# Altium integrated library Maxim Sensors.IntLib: 1171 symbols (part 21 of 61)
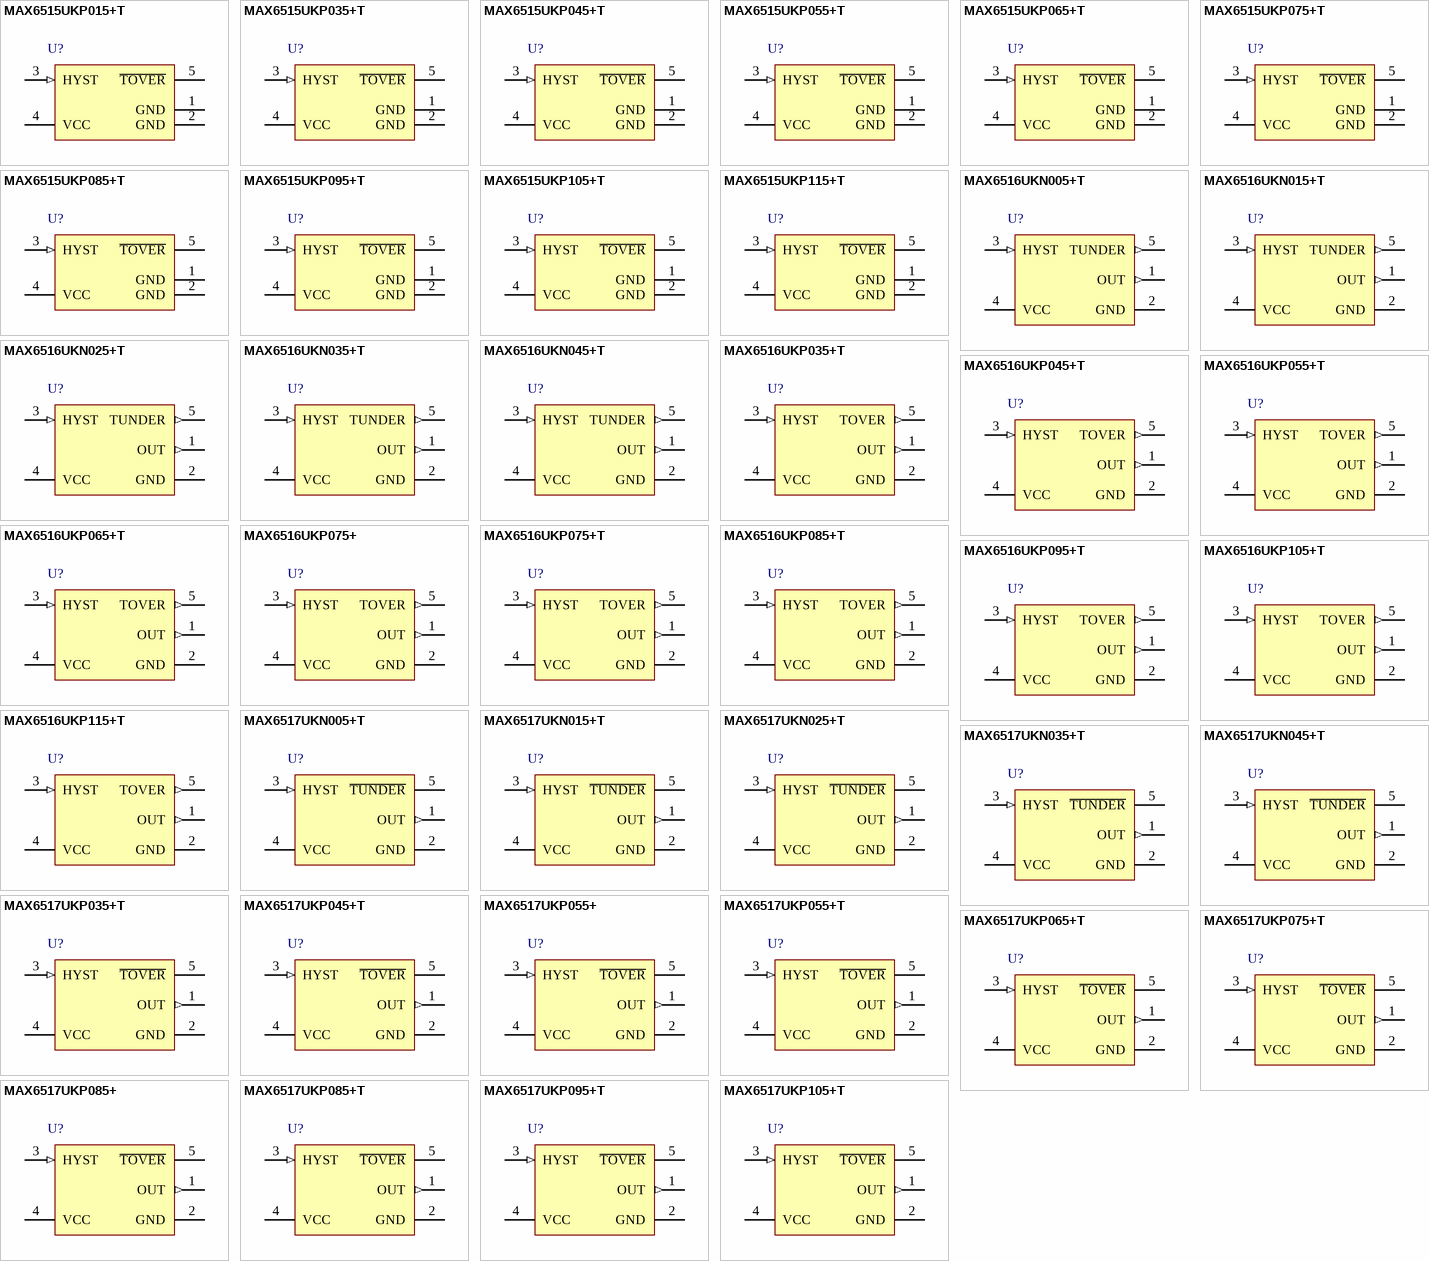
[diagram p53: symbols MAX6515UKP015+T to MAX6517UKP105+T]

## MAX6516UKP065+T
designator U?
Low-Cost, 2.7 to 5.5 V Temperature Switch, -55 to 125 degC, 5-Pin SOT23 (U5+2), Pb-Free, Tape and Reel; Generic Part Number: MAX6516; PartNumber: MAX6516UKP065+T; Functions: Temperature Switch/Temperature Comparator; Interface: Logic; DatasheetVersion: Rev. 1; PackageVersion: Rev. G, 04/2011; PackageReference: U5+2; PackageDescription: 5-Pin Small-Outline Transistor Package, Body 1.625 x 2.9 mm, Pitch 0.95 mm; Packing: Tape and Reel; Mounting Technology: Surface Mount; Code_JEDEC: MO178; ComponentLink1Description: Manufacturer URL; ComponentLink1URL: http://www.maximintegrated.com/; ComponentLink2Description: Datasheet; ComponentLink2URL: http://datasheets.maximintegrated.com/en/ds/MAX6516-MAX6519.pdf; ComponentLink3Description: Package Specification; ComponentLink3URL: http://pdfserv.maximintegrated.com/package_dwgs/21-0057.PDF
footprint MAXM-U5+2_N (SOT23, 5-Leads, Body 2.9x1.625mm, Pitch 0.95mm, IPC Medium Density)
footprint MAXM-U5+2_L (SOT23, 5-Leads, Body 2.9x1.625mm, Pitch 0.95mm, IPC High Density)
footprint MAXM-U5+2_M (SOT23, 5-Leads, Body 2.9x1.625mm, Pitch 0.95mm, IPC Low Density)
pins: 1 OUT (out) "Analog Output. Voltage represents the die’s temperature.", 2 GND (power) "Ground", 3 HYST (in) "Hysteresis Input. Connect to VCC for 2degreesC of hysteresis or to GND for 10degreesC hysteresis.", 4 VCC (power) "Input Supply. Bypass to ground with a 0.1uF capacitor.", 5 TOVER (out) "Push-Pull Active-High Output (Hot Threshold). TOVER goes high when the die temperature exceeds the factory-programmed hot temperature threshold."

## MAX6516UKP075+
designator U?
Low-Cost, 2.7 to 5.5 V Temperature Switch, -55 to 125 degC, 5-Pin SOT23 (U5+2), Pb-Free; Generic Part Number: MAX6516; PartNumber: MAX6516UKP075+; Functions: Temperature Switch/Temperature Comparator; Interface: Analog, Logic; DatasheetVersion: Rev. 1; PackageVersion: Rev. G, 04/2011; PackageReference: U5+2; PackageDescription: 5-Pin Small-Outline Transistor Package, Body 1.625 x 2.9 mm, Pitch 0.95 mm; Supplier 1: Mouser; Supplier Part Number 1: N/A; Mounting Technology: Surface Mount; Code_JEDEC: MO178; ComponentLink1Description: Manufacturer URL; ComponentLink1URL: http://www.maximintegrated.com/; ComponentLink2Description: Datasheet; ComponentLink2URL: http://datasheets.maximintegrated.com/en/ds/MAX6516; ComponentLink3Description: Package Specification; ComponentLink3URL: http://pdfserv.maximintegrated.com/package_dwgs/21-0057.PDF
footprint MAXM-U5+2_N (SOT23, 5-Leads, Body 2.9x1.625mm, Pitch 0.95mm, IPC Medium Density)
footprint MAXM-U5+2_L (SOT23, 5-Leads, Body 2.9x1.625mm, Pitch 0.95mm, IPC High Density)
footprint MAXM-U5+2_M (SOT23, 5-Leads, Body 2.9x1.625mm, Pitch 0.95mm, IPC Low Density)
pins: 1 OUT (out) "Analog Output. Voltage represents the die’s temperature.", 2 GND (power) "Ground", 3 HYST (in) "Hysteresis Input. Connect to VCC for 2degreesC of hysteresis or to GND for 10degreesC hysteresis.", 4 VCC (power) "Input Supply. Bypass to ground with a 0.1uF capacitor.", 5 TOVER (out) "Push-Pull Active-High Output (Hot Threshold). TOVER goes high when the die temperature exceeds the factory-programmed hot temperature threshold."

## MAX6516UKP075+T
designator U?
Low-Cost, 2.7 to 5.5 V Temperature Switch, -55 to 125 degC, 5-Pin SOT23 (U5+2), Pb-Free, Tape and Reel; Generic Part Number: MAX6516; PartNumber: MAX6516UKP075+T; Functions: Temperature Switch/Temperature Comparator; Interface: Analog, Logic; DatasheetVersion: Rev. 1; PackageVersion: Rev. G, 04/2011; PackageReference: U5+2; PackageDescription: 5-Pin Small-Outline Transistor Package, Body 1.625 x 2.9 mm, Pitch 0.95 mm; Supplier 1: Digi-Key; Supplier Part Number 1: MAX6516UKP075+T-ND; Supplier 2: Mouser; Supplier Part Number 2: 700-MAX6516UKP075T; Packing: Tape and Reel; Mounting Technology: Surface Mount; Code_JEDEC: MO178; ComponentLink1Description: Manufacturer URL; ComponentLink1URL: http://www.maximintegrated.com/; ComponentLink2Description: Datasheet; ComponentLink2URL: http://datasheets.maximintegrated.com/en/ds/MAX6516; ComponentLink3Description: Package Specification; ComponentLink3URL: http://pdfserv.maximintegrated.com/package_dwgs/21-0057.PDF
footprint MAXM-U5+2_N (SOT23, 5-Leads, Body 2.9x1.625mm, Pitch 0.95mm, IPC Medium Density)
footprint MAXM-U5+2_L (SOT23, 5-Leads, Body 2.9x1.625mm, Pitch 0.95mm, IPC High Density)
footprint MAXM-U5+2_M (SOT23, 5-Leads, Body 2.9x1.625mm, Pitch 0.95mm, IPC Low Density)
pins: 1 OUT (out) "Analog Output. Voltage represents the die’s temperature.", 2 GND (power) "Ground", 3 HYST (in) "Hysteresis Input. Connect to VCC for 2degreesC of hysteresis or to GND for 10degreesC hysteresis.", 4 VCC (power) "Input Supply. Bypass to ground with a 0.1uF capacitor.", 5 TOVER (out) "Push-Pull Active-High Output (Hot Threshold). TOVER goes high when the die temperature exceeds the factory-programmed hot temperature threshold."

## MAX6516UKP085+T
designator U?
Low-Cost, 2.7 to 5.5 V Temperature Switch, -55 to 125 degC, 5-Pin SOT23 (U5+2), Pb-Free, Tape and Reel; Generic Part Number: MAX6516; PartNumber: MAX6516UKP085+T; Functions: Temperature Switch/Temperature Comparator; Interface: Analog, Logic; DatasheetVersion: Rev. 1; PackageVersion: Rev. G, 04/2011; PackageReference: U5+2; PackageDescription: 5-Pin Small-Outline Transistor Package, Body 1.625 x 2.9 mm, Pitch 0.95 mm; Packing: Tape and Reel; Mounting Technology: Surface Mount; Code_JEDEC: MO178; ComponentLink1Description: Manufacturer URL; ComponentLink1URL: http://www.maximintegrated.com/; ComponentLink2Description: Datasheet; ComponentLink2URL: http://datasheets.maximintegrated.com/en/ds/MAX6516-MAX6519.pdf; ComponentLink3Description: Package Specification; ComponentLink3URL: http://pdfserv.maximintegrated.com/package_dwgs/21-0057.PDF
footprint MAXM-U5+2_N (SOT23, 5-Leads, Body 2.9x1.625mm, Pitch 0.95mm, IPC Medium Density)
footprint MAXM-U5+2_L (SOT23, 5-Leads, Body 2.9x1.625mm, Pitch 0.95mm, IPC High Density)
footprint MAXM-U5+2_M (SOT23, 5-Leads, Body 2.9x1.625mm, Pitch 0.95mm, IPC Low Density)
pins: 1 OUT (out) "Analog Output. Voltage represents the die’s temperature.", 2 GND (power) "Ground", 3 HYST (in) "Hysteresis Input. Connect to VCC for 2degreesC of hysteresis or to GND for 10degreesC hysteresis.", 4 VCC (power) "Input Supply. Bypass to ground with a 0.1uF capacitor.", 5 TOVER (out) "Push-Pull Active-High Output (Hot Threshold). TOVER goes high when the die temperature exceeds the factory-programmed hot temperature threshold."

## MAX6516UKP095+T
designator U?
Low-Cost, 2.7 to 5.5 V Temperature Switch, -55 to 125 degC, 5-Pin SOT23 (U5+2), Pb-Free, Tape and Reel; Generic Part Number: MAX6516; PartNumber: MAX6516UKP095+T; Functions: Temperature Switch/Temperature Comparator; Interface: Analog, Logic; DatasheetVersion: Rev. 1; PackageVersion: Rev. G, 04/2011; PackageReference: U5+2; PackageDescription: 5-Pin Small-Outline Transistor Package, Body 1.625 x 2.9 mm, Pitch 0.95 mm; Packing: Tape and Reel; Mounting Technology: Surface Mount; Code_JEDEC: MO178; ComponentLink1Description: Manufacturer URL; ComponentLink1URL: http://www.maximintegrated.com/; ComponentLink2Description: Datasheet; ComponentLink2URL: http://datasheets.maximintegrated.com/en/ds/MAX6516-MAX6519.pdf; ComponentLink3Description: Package Specification; ComponentLink3URL: http://pdfserv.maximintegrated.com/package_dwgs/21-0057.PDF
footprint MAXM-U5+2_N (SOT23, 5-Leads, Body 2.9x1.625mm, Pitch 0.95mm, IPC Medium Density)
footprint MAXM-U5+2_L (SOT23, 5-Leads, Body 2.9x1.625mm, Pitch 0.95mm, IPC High Density)
footprint MAXM-U5+2_M (SOT23, 5-Leads, Body 2.9x1.625mm, Pitch 0.95mm, IPC Low Density)
pins: 1 OUT (out) "Analog Output. Voltage represents the die’s temperature.", 2 GND (power) "Ground", 3 HYST (in) "Hysteresis Input. Connect to VCC for 2degreesC of hysteresis or to GND for 10degreesC hysteresis.", 4 VCC (power) "Input Supply. Bypass to ground with a 0.1uF capacitor.", 5 TOVER (out) "Push-Pull Active-High Output (Hot Threshold). TOVER goes high when the die temperature exceeds the factory-programmed hot temperature threshold."

## MAX6516UKP105+T
designator U?
Low-Cost, 2.7 to 5.5 V Temperature Switch, -55 to 125 degC, 5-Pin SOT23 (U5+2), Pb-Free, Tape and Reel; Generic Part Number: MAX6516; PartNumber: MAX6516UKP105+T; Functions: Temperature Switch/Temperature Comparator; Interface: Analog, Logic; DatasheetVersion: Rev. 1; PackageVersion: Rev. G, 04/2011; PackageReference: U5+2; PackageDescription: 5-Pin Small-Outline Transistor Package, Body 1.625 x 2.9 mm, Pitch 0.95 mm; Packing: Tape and Reel; Mounting Technology: Surface Mount; Code_JEDEC: MO178; ComponentLink1Description: Manufacturer URL; ComponentLink1URL: http://www.maximintegrated.com/; ComponentLink2Description: Datasheet; ComponentLink2URL: http://datasheets.maximintegrated.com/en/ds/MAX6516-MAX6519.pdf; ComponentLink3Description: Package Specification; ComponentLink3URL: http://pdfserv.maximintegrated.com/package_dwgs/21-0057.PDF
footprint MAXM-U5+2_N (SOT23, 5-Leads, Body 2.9x1.625mm, Pitch 0.95mm, IPC Medium Density)
footprint MAXM-U5+2_L (SOT23, 5-Leads, Body 2.9x1.625mm, Pitch 0.95mm, IPC High Density)
footprint MAXM-U5+2_M (SOT23, 5-Leads, Body 2.9x1.625mm, Pitch 0.95mm, IPC Low Density)
pins: 1 OUT (out) "Analog Output. Voltage represents the die’s temperature.", 2 GND (power) "Ground", 3 HYST (in) "Hysteresis Input. Connect to VCC for 2degreesC of hysteresis or to GND for 10degreesC hysteresis.", 4 VCC (power) "Input Supply. Bypass to ground with a 0.1uF capacitor.", 5 TOVER (out) "Push-Pull Active-High Output (Hot Threshold). TOVER goes high when the die temperature exceeds the factory-programmed hot temperature threshold."

## MAX6516UKP115+T
designator U?
Low-Cost, 2.7 to 5.5 V Temperature Switch, -55 to 125 degC, 5-Pin SOT23 (U5+2), Pb-Free, Tape and Reel; Generic Part Number: MAX6516; PartNumber: MAX6516UKP115+T; Functions: Temperature Switch/Temperature Comparator; Interface: Logic; DatasheetVersion: Rev. 1; PackageVersion: Rev. G, 04/2011; PackageReference: U5+2; PackageDescription: 5-Pin Small-Outline Transistor Package, Body 1.625 x 2.9 mm, Pitch 0.95 mm; Packing: Tape and Reel; Mounting Technology: Surface Mount; Code_JEDEC: MO178; ComponentLink1Description: Manufacturer URL; ComponentLink1URL: http://www.maximintegrated.com/; ComponentLink2Description: Datasheet; ComponentLink2URL: http://datasheets.maximintegrated.com/en/ds/MAX6516-MAX6519.pdf; ComponentLink3Description: Package Specification; ComponentLink3URL: http://pdfserv.maximintegrated.com/package_dwgs/21-0057.PDF
footprint MAXM-U5+2_N (SOT23, 5-Leads, Body 2.9x1.625mm, Pitch 0.95mm, IPC Medium Density)
footprint MAXM-U5+2_L (SOT23, 5-Leads, Body 2.9x1.625mm, Pitch 0.95mm, IPC High Density)
footprint MAXM-U5+2_M (SOT23, 5-Leads, Body 2.9x1.625mm, Pitch 0.95mm, IPC Low Density)
pins: 1 OUT (out) "Analog Output. Voltage represents the die’s temperature.", 2 GND (power) "Ground", 3 HYST (in) "Hysteresis Input. Connect to VCC for 2degreesC of hysteresis or to GND for 10degreesC hysteresis.", 4 VCC (power) "Input Supply. Bypass to ground with a 0.1uF capacitor.", 5 TOVER (out) "Push-Pull Active-High Output (Hot Threshold). TOVER goes high when the die temperature exceeds the factory-programmed hot temperature threshold."

## MAX6517UKN005+T
designator U?
Low-Cost, 2.7 to 5.5 V Temperature Switch, -55 to 125 degC, 5-Pin SOT23 (U5+2), Pb-Free, Tape and Reel; Generic Part Number: MAX6517; PartNumber: MAX6517UKN005+T; Functions: Temperature Switch/Temperature Comparator; Interface: Analog Logic; DatasheetVersion: Rev. 1; PackageVersion: Rev. G, 04/2011; PackageReference: U5+2; PackageDescription: 5-Pin Small-Outline Transistor Package, Body 1.625 x 2.9 mm, Pitch 0.95 mm; Supplier 1: Mouser; Supplier Part Number 1: N/A; Packing: Tape and Reel; Mounting Technology: Surface Mount; Code_JEDEC: MO178; ComponentLink1Description: Manufacturer URL; ComponentLink1URL: http://www.maximintegrated.com/; ComponentLink2Description: Datasheet; ComponentLink2URL: http://datasheets.maximintegrated.com/en/ds/MAX6516-MAX6519.pdf; ComponentLink3Description: Package Specification; ComponentLink3URL: http://pdfserv.maximintegrated.com/package_dwgs/21-0057.PDF
footprint MAXM-U5+2_N (SOT23, 5-Leads, Body 2.9x1.625mm, Pitch 0.95mm, IPC Medium Density)
footprint MAXM-U5+2_L (SOT23, 5-Leads, Body 2.9x1.625mm, Pitch 0.95mm, IPC High Density)
footprint MAXM-U5+2_M (SOT23, 5-Leads, Body 2.9x1.625mm, Pitch 0.95mm, IPC Low Density)
pins: 1 OUT (out) "Analog Output. Voltage represents the die’s temperature.", 2 GND (power) "Ground", 3 HYST (in) "Hysteresis Input. Connect to VCC for 2degreesC of hysteresis or to GND for 10degreesC hysteresis", 4 VCC (power) "Input Supply. Bypass to ground with a 0.1uF capacitor", 5 ~{TUNDER} (oc) "Open-Drain, Active-Low Output (Cold Threshold). T\U\N\D\E\R\ goes low when the die temperature goes below the factory-programmed cold temperature threshold. Connect to a 100k ohm pullup resistor. May be pulled up to a (See Datasheet)"

## MAX6517UKN015+T
designator U?
Low-Cost, 2.7 to 5.5 V Temperature Switch, -55 to 125 degC, 5-Pin SOT23 (U5+2), Pb-Free, Tape and Reel; Generic Part Number: MAX6517; PartNumber: MAX6517UKN015+T; Functions: Temperature Switch/Temperature Comparator; Interface: Analog Logic; DatasheetVersion: Rev. 1; PackageVersion: Rev. G, 04/2011; PackageReference: U5+2; PackageDescription: 5-Pin Small-Outline Transistor Package, Body 1.625 x 2.9 mm, Pitch 0.95 mm; Supplier 1: Mouser; Supplier Part Number 1: N/A; Packing: Tape and Reel; Mounting Technology: Surface Mount; Code_JEDEC: MO178; ComponentLink1Description: Manufacturer URL; ComponentLink1URL: http://www.maximintegrated.com/; ComponentLink2Description: Datasheet; ComponentLink2URL: http://datasheets.maximintegrated.com/en/ds/MAX6516-MAX6519.pdf; ComponentLink3Description: Package Specification; ComponentLink3URL: http://pdfserv.maximintegrated.com/package_dwgs/21-0057.PDF
footprint MAXM-U5+2_N (SOT23, 5-Leads, Body 2.9x1.625mm, Pitch 0.95mm, IPC Medium Density)
footprint MAXM-U5+2_L (SOT23, 5-Leads, Body 2.9x1.625mm, Pitch 0.95mm, IPC High Density)
footprint MAXM-U5+2_M (SOT23, 5-Leads, Body 2.9x1.625mm, Pitch 0.95mm, IPC Low Density)
pins: 1 OUT (out) "Analog Output. Voltage represents the die’s temperature.", 2 GND (power) "Ground", 3 HYST (in) "Hysteresis Input. Connect to VCC for 2degreesC of hysteresis or to GND for 10degreesC hysteresis", 4 VCC (power) "Input Supply. Bypass to ground with a 0.1uF capacitor", 5 ~{TUNDER} (oc) "Open-Drain, Active-Low Output (Cold Threshold). T\U\N\D\E\R\ goes low when the die temperature goes below the factory-programmed cold temperature threshold. Connect to a 100k ohm pullup resistor. May be pulled up to a (See Datasheet)"

## MAX6517UKN025+T
designator U?
Low-Cost, 2.7 to 5.5 V Temperature Switch, -55 to 125 degC, 5-Pin SOT23 (U5+2), Pb-Free, Tape and Reel; Generic Part Number: MAX6517; PartNumber: MAX6517UKN025+T; Functions: Temperature Switch/Temperature Comparator; Interface: Analog Logic; DatasheetVersion: Rev. 1; PackageVersion: Rev. G, 04/2011; PackageReference: U5+2; PackageDescription: 5-Pin Small-Outline Transistor Package, Body 1.625 x 2.9 mm, Pitch 0.95 mm; Supplier 1: Mouser; Supplier Part Number 1: N/A; Packing: Tape and Reel; Mounting Technology: Surface Mount; Code_JEDEC: MO178; ComponentLink1Description: Manufacturer URL; ComponentLink1URL: http://www.maximintegrated.com/; ComponentLink2Description: Datasheet; ComponentLink2URL: http://datasheets.maximintegrated.com/en/ds/MAX6516-MAX6519.pdf; ComponentLink3Description: Package Specification; ComponentLink3URL: http://pdfserv.maximintegrated.com/package_dwgs/21-0057.PDF
footprint MAXM-U5+2_N (SOT23, 5-Leads, Body 2.9x1.625mm, Pitch 0.95mm, IPC Medium Density)
footprint MAXM-U5+2_L (SOT23, 5-Leads, Body 2.9x1.625mm, Pitch 0.95mm, IPC High Density)
footprint MAXM-U5+2_M (SOT23, 5-Leads, Body 2.9x1.625mm, Pitch 0.95mm, IPC Low Density)
pins: 1 OUT (out) "Analog Output. Voltage represents the die’s temperature.", 2 GND (power) "Ground", 3 HYST (in) "Hysteresis Input. Connect to VCC for 2degreesC of hysteresis or to GND for 10degreesC hysteresis", 4 VCC (power) "Input Supply. Bypass to ground with a 0.1uF capacitor", 5 ~{TUNDER} (oc) "Open-Drain, Active-Low Output (Cold Threshold). T\U\N\D\E\R\ goes low when the die temperature goes below the factory-programmed cold temperature threshold. Connect to a 100k ohm pullup resistor. May be pulled up to a (See Datasheet)"

## MAX6517UKN035+T
designator U?
Low-Cost, 2.7 to 5.5 V Temperature Switch, -55 to 125 degC, 5-Pin SOT23 (U5+2), Pb-Free, Tape and Reel; Generic Part Number: MAX6517; PartNumber: MAX6517UKN035+T; Functions: Temperature Switch/Temperature Comparator; Interface: Analog Logic; DatasheetVersion: Rev. 1; PackageVersion: Rev. G, 04/2011; PackageReference: U5+2; PackageDescription: 5-Pin Small-Outline Transistor Package, Body 1.625 x 2.9 mm, Pitch 0.95 mm; Supplier 1: Mouser; Supplier Part Number 1: N/A; Packing: Tape and Reel; Mounting Technology: Surface Mount; Code_JEDEC: MO178; ComponentLink1Description: Manufacturer URL; ComponentLink1URL: http://www.maximintegrated.com/; ComponentLink2Description: Datasheet; ComponentLink2URL: http://datasheets.maximintegrated.com/en/ds/MAX6516-MAX6519.pdf; ComponentLink3Description: Package Specification; ComponentLink3URL: http://pdfserv.maximintegrated.com/package_dwgs/21-0057.PDF
footprint MAXM-U5+2_N (SOT23, 5-Leads, Body 2.9x1.625mm, Pitch 0.95mm, IPC Medium Density)
footprint MAXM-U5+2_L (SOT23, 5-Leads, Body 2.9x1.625mm, Pitch 0.95mm, IPC High Density)
footprint MAXM-U5+2_M (SOT23, 5-Leads, Body 2.9x1.625mm, Pitch 0.95mm, IPC Low Density)
pins: 1 OUT (out) "Analog Output. Voltage represents the die’s temperature.", 2 GND (power) "Ground", 3 HYST (in) "Hysteresis Input. Connect to VCC for 2degreesC of hysteresis or to GND for 10degreesC hysteresis", 4 VCC (power) "Input Supply. Bypass to ground with a 0.1uF capacitor", 5 ~{TUNDER} (oc) "Open-Drain, Active-Low Output (Cold Threshold). T\U\N\D\E\R\ goes low when the die temperature goes below the factory-programmed cold temperature threshold. Connect to a 100k ohm pullup resistor. May be pulled up to a (See Datasheet)"

## MAX6517UKN045+T
designator U?
Low-Cost, 2.7 to 5.5 V Temperature Switch, -55 to 125 degC, 5-Pin SOT23 (U5+2), Pb-Free, Tape and Reel; Generic Part Number: MAX6517; PartNumber: MAX6517UKN045+T; Functions: Temperature Switch/Temperature Comparator; Interface: Analog Logic; DatasheetVersion: Rev. 1; PackageVersion: Rev. G, 04/2011; PackageReference: U5+2; PackageDescription: 5-Pin Small-Outline Transistor Package, Body 1.625 x 2.9 mm, Pitch 0.95 mm; Supplier 1: Mouser; Supplier Part Number 1: N/A; Packing: Tape and Reel; Mounting Technology: Surface Mount; Code_JEDEC: MO178; ComponentLink1Description: Manufacturer URL; ComponentLink1URL: http://www.maximintegrated.com/; ComponentLink2Description: Datasheet; ComponentLink2URL: http://datasheets.maximintegrated.com/en/ds/MAX6516-MAX6519.pdf; ComponentLink3Description: Package Specification; ComponentLink3URL: http://pdfserv.maximintegrated.com/package_dwgs/21-0057.PDF
footprint MAXM-U5+2_N (SOT23, 5-Leads, Body 2.9x1.625mm, Pitch 0.95mm, IPC Medium Density)
footprint MAXM-U5+2_L (SOT23, 5-Leads, Body 2.9x1.625mm, Pitch 0.95mm, IPC High Density)
footprint MAXM-U5+2_M (SOT23, 5-Leads, Body 2.9x1.625mm, Pitch 0.95mm, IPC Low Density)
pins: 1 OUT (out) "Analog Output. Voltage represents the die’s temperature.", 2 GND (power) "Ground", 3 HYST (in) "Hysteresis Input. Connect to VCC for 2degreesC of hysteresis or to GND for 10degreesC hysteresis", 4 VCC (power) "Input Supply. Bypass to ground with a 0.1uF capacitor", 5 ~{TUNDER} (oc) "Open-Drain, Active-Low Output (Cold Threshold). T\U\N\D\E\R\ goes low when the die temperature goes below the factory-programmed cold temperature threshold. Connect to a 100k ohm pullup resistor. May be pulled up to a (See Datasheet)"

## MAX6517UKP035+T
designator U?
Low-Cost, 2.7 to 5.5 V Temperature Switch, -55 to 125 degC, 5-Pin SOT23 (U5+2), Pb-Free, Tape and Reel; Generic Part Number: MAX6517; PartNumber: MAX6517UKP035+T; Functions: Temperature Switch/Temperature Comparator; Interface: Analog, Logic; DatasheetVersion: Rev. 1; PackageVersion: Rev. G, 04/2011; PackageReference: U5+2; PackageDescription: 5-Pin Small-Outline Transistor Package, Body 1.625 x 2.9 mm, Pitch 0.95 mm; Supplier 1: Digi-Key; Supplier Part Number 1: MAX6517UKP035+T-ND; Supplier 2: Mouser; Supplier Part Number 2: 700-MAX6517UKP035T; Packing: Tape and Reel; Mounting Technology: Surface Mount; Code_JEDEC: MO178; ComponentLink1Description: Manufacturer URL; ComponentLink1URL: http://www.maximintegrated.com/; ComponentLink2Description: Datasheet; ComponentLink2URL: http://datasheets.maximintegrated.com/en/ds/MAX6517; ComponentLink3Description: Package Specification; ComponentLink3URL: http://pdfserv.maximintegrated.com/package_dwgs/21-0057.PDF
footprint MAXM-U5+2_N (SOT23, 5-Leads, Body 2.9x1.625mm, Pitch 0.95mm, IPC Medium Density)
footprint MAXM-U5+2_L (SOT23, 5-Leads, Body 2.9x1.625mm, Pitch 0.95mm, IPC High Density)
footprint MAXM-U5+2_M (SOT23, 5-Leads, Body 2.9x1.625mm, Pitch 0.95mm, IPC Low Density)
pins: 1 OUT (out) "Analog Output. Voltage represents the die’s temperature.", 2 GND (power) "Ground", 3 HYST (in) "Hysteresis Input. Connect to VCC for 2degreesC of hysteresis or to GND for 10degreesC hysteresis", 4 VCC (power) "Input Supply. Bypass to ground with a 0.1uF capacitor", 5 ~{TOVER} (oc) "Open-Drain, Active-Low Output (Hot Threshold). TOVER goes low when the die temperature exceeds the factory-programmed hot temperature threshold. Connect to a 100k ohm pullup resistor. May be pulled up to a voltage higher (See Datasheet)"

## MAX6517UKP045+T
designator U?
Low-Cost, 2.7 to 5.5 V Temperature Switch, -55 to 125 degC, 5-Pin SOT23 (U5+2), Pb-Free, Tape and Reel; Generic Part Number: MAX6517; PartNumber: MAX6517UKP045+T; Functions: Temperature Switch/Temperature Comparator; Interface: Analog, Logic; DatasheetVersion: Rev. 1; PackageVersion: Rev. G, 04/2011; PackageReference: U5+2; PackageDescription: 5-Pin Small-Outline Transistor Package, Body 1.625 x 2.9 mm, Pitch 0.95 mm; Supplier 1: Digi-Key; Supplier Part Number 1: MAX6517UKP045+T-ND; Supplier 2: Mouser; Supplier Part Number 2: 700-MAX6517UKP045T; Packing: Tape and Reel; Mounting Technology: Surface Mount; Code_JEDEC: MO178; ComponentLink1Description: Manufacturer URL; ComponentLink1URL: http://www.maximintegrated.com/; ComponentLink2Description: Datasheet; ComponentLink2URL: http://datasheets.maximintegrated.com/en/ds/MAX6517; ComponentLink3Description: Package Specification; ComponentLink3URL: http://pdfserv.maximintegrated.com/package_dwgs/21-0057.PDF
footprint MAXM-U5+2_N (SOT23, 5-Leads, Body 2.9x1.625mm, Pitch 0.95mm, IPC Medium Density)
footprint MAXM-U5+2_L (SOT23, 5-Leads, Body 2.9x1.625mm, Pitch 0.95mm, IPC High Density)
footprint MAXM-U5+2_M (SOT23, 5-Leads, Body 2.9x1.625mm, Pitch 0.95mm, IPC Low Density)
pins: 1 OUT (out) "Analog Output. Voltage represents the die’s temperature.", 2 GND (power) "Ground", 3 HYST (in) "Hysteresis Input. Connect to VCC for 2degreesC of hysteresis or to GND for 10degreesC hysteresis", 4 VCC (power) "Input Supply. Bypass to ground with a 0.1uF capacitor", 5 ~{TOVER} (oc) "Open-Drain, Active-Low Output (Hot Threshold). TOVER goes low when the die temperature exceeds the factory-programmed hot temperature threshold. Connect to a 100k ohm pullup resistor. May be pulled up to a voltage higher (See Datasheet)"

## MAX6517UKP055+
designator U?
Low-Cost, 2.7 to 5.5 V Temperature Switch, -55 to 125 degC, 5-Pin SOT23 (U5+2), Pb-Free; Generic Part Number: MAX6517; PartNumber: MAX6517UKP055+; Functions: Temperature Switch/Temperature Comparator; Interface: Analog, Logic; DatasheetVersion: Rev. 1; PackageVersion: Rev. G, 04/2011; PackageReference: U5+2; PackageDescription: 5-Pin Small-Outline Transistor Package, Body 1.625 x 2.9 mm, Pitch 0.95 mm; Supplier 1: Mouser; Supplier Part Number 1: N/A; Mounting Technology: Surface Mount; Code_JEDEC: MO178; ComponentLink1Description: Manufacturer URL; ComponentLink1URL: http://www.maximintegrated.com/; ComponentLink2Description: Datasheet; ComponentLink2URL: http://datasheets.maximintegrated.com/en/ds/MAX6517; ComponentLink3Description: Package Specification; ComponentLink3URL: http://pdfserv.maximintegrated.com/package_dwgs/21-0057.PDF
footprint MAXM-U5+2_N (SOT23, 5-Leads, Body 2.9x1.625mm, Pitch 0.95mm, IPC Medium Density)
footprint MAXM-U5+2_L (SOT23, 5-Leads, Body 2.9x1.625mm, Pitch 0.95mm, IPC High Density)
footprint MAXM-U5+2_M (SOT23, 5-Leads, Body 2.9x1.625mm, Pitch 0.95mm, IPC Low Density)
pins: 1 OUT (out) "Analog Output. Voltage represents the die’s temperature.", 2 GND (power) "Ground", 3 HYST (in) "Hysteresis Input. Connect to VCC for 2degreesC of hysteresis or to GND for 10degreesC hysteresis", 4 VCC (power) "Input Supply. Bypass to ground with a 0.1uF capacitor", 5 ~{TOVER} (oc) "Open-Drain, Active-Low Output (Hot Threshold). TOVER goes low when the die temperature exceeds the factory-programmed hot temperature threshold. Connect to a 100k ohm pullup resistor. May be pulled up to a voltage higher (See Datasheet)"

## MAX6517UKP055+T
designator U?
Low-Cost, 2.7 to 5.5 V Temperature Switch, -55 to 125 degC, 5-Pin SOT23 (U5+2), Pb-Free, Tape and Reel; Generic Part Number: MAX6517; PartNumber: MAX6517UKP055+T; Functions: Temperature Switch/Temperature Comparator; Interface: Analog, Logic; DatasheetVersion: Rev. 1; PackageVersion: Rev. G, 04/2011; PackageReference: U5+2; PackageDescription: 5-Pin Small-Outline Transistor Package, Body 1.625 x 2.9 mm, Pitch 0.95 mm; Supplier 1: Digi-Key; Supplier Part Number 1: MAX6517UKP055+T-ND; Supplier 2: Mouser; Supplier Part Number 2: 700-MAX6517UKP055T; Packing: Tape and Reel; Mounting Technology: Surface Mount; Code_JEDEC: MO178; ComponentLink1Description: Manufacturer URL; ComponentLink1URL: http://www.maximintegrated.com/; ComponentLink2Description: Datasheet; ComponentLink2URL: http://datasheets.maximintegrated.com/en/ds/MAX6517; ComponentLink3Description: Package Specification; ComponentLink3URL: http://pdfserv.maximintegrated.com/package_dwgs/21-0057.PDF
footprint MAXM-U5+2_N (SOT23, 5-Leads, Body 2.9x1.625mm, Pitch 0.95mm, IPC Medium Density)
footprint MAXM-U5+2_L (SOT23, 5-Leads, Body 2.9x1.625mm, Pitch 0.95mm, IPC High Density)
footprint MAXM-U5+2_M (SOT23, 5-Leads, Body 2.9x1.625mm, Pitch 0.95mm, IPC Low Density)
pins: 1 OUT (out) "Analog Output. Voltage represents the die’s temperature.", 2 GND (power) "Ground", 3 HYST (in) "Hysteresis Input. Connect to VCC for 2degreesC of hysteresis or to GND for 10degreesC hysteresis", 4 VCC (power) "Input Supply. Bypass to ground with a 0.1uF capacitor", 5 ~{TOVER} (oc) "Open-Drain, Active-Low Output (Hot Threshold). TOVER goes low when the die temperature exceeds the factory-programmed hot temperature threshold. Connect to a 100k ohm pullup resistor. May be pulled up to a voltage higher (See Datasheet)"

## MAX6517UKP065+T
designator U?
Low-Cost, 2.7 to 5.5 V Temperature Switch, -55 to 125 degC, 5-Pin SOT23 (U5+2), Pb-Free, Tape and Reel; Generic Part Number: MAX6517; PartNumber: MAX6517UKP065+T; Functions: Temperature Switch/Temperature Comparator; Interface: Analog, Logic; DatasheetVersion: Rev. 1; PackageVersion: Rev. G, 04/2011; PackageReference: U5+2; PackageDescription: 5-Pin Small-Outline Transistor Package, Body 1.625 x 2.9 mm, Pitch 0.95 mm; Supplier 1: Digi-Key; Supplier Part Number 1: MAX6517UKP065+T-ND; Supplier 2: Mouser; Supplier Part Number 2: 700-MAX6517UKP065T; Packing: Tape and Reel; Mounting Technology: Surface Mount; Code_JEDEC: MO178; ComponentLink1Description: Manufacturer URL; ComponentLink1URL: http://www.maximintegrated.com/; ComponentLink2Description: Datasheet; ComponentLink2URL: http://datasheets.maximintegrated.com/en/ds/MAX6517; ComponentLink3Description: Package Specification; ComponentLink3URL: http://pdfserv.maximintegrated.com/package_dwgs/21-0057.PDF
footprint MAXM-U5+2_N (SOT23, 5-Leads, Body 2.9x1.625mm, Pitch 0.95mm, IPC Medium Density)
footprint MAXM-U5+2_L (SOT23, 5-Leads, Body 2.9x1.625mm, Pitch 0.95mm, IPC High Density)
footprint MAXM-U5+2_M (SOT23, 5-Leads, Body 2.9x1.625mm, Pitch 0.95mm, IPC Low Density)
pins: 1 OUT (out) "Analog Output. Voltage represents the die’s temperature.", 2 GND (power) "Ground", 3 HYST (in) "Hysteresis Input. Connect to VCC for 2degreesC of hysteresis or to GND for 10degreesC hysteresis", 4 VCC (power) "Input Supply. Bypass to ground with a 0.1uF capacitor", 5 ~{TOVER} (oc) "Open-Drain, Active-Low Output (Hot Threshold). TOVER goes low when the die temperature exceeds the factory-programmed hot temperature threshold. Connect to a 100k ohm pullup resistor. May be pulled up to a voltage higher (See Datasheet)"

## MAX6517UKP075+T
designator U?
Low-Cost, 2.7 to 5.5 V Temperature Switch, -55 to 125 degC, 5-Pin SOT23 (U5+2), Pb-Free, Tape and Reel; Generic Part Number: MAX6517; PartNumber: MAX6517UKP075+T; Functions: Temperature Switch/Temperature Comparator; Interface: Analog, Logic; DatasheetVersion: Rev. 1; PackageVersion: Rev. G, 04/2011; PackageReference: U5+2; PackageDescription: 5-Pin Small-Outline Transistor Package, Body 1.625 x 2.9 mm, Pitch 0.95 mm; Supplier 1: Digi-Key; Supplier Part Number 1: MAX6517UKP075+T-ND; Packing: Tape and Reel; Mounting Technology: Surface Mount; Code_JEDEC: MO178; ComponentLink1Description: Manufacturer URL; ComponentLink1URL: http://www.maximintegrated.com/; ComponentLink2Description: Datasheet; ComponentLink2URL: http://datasheets.maximintegrated.com/en/ds/MAX6517; ComponentLink3Description: Package Specification; ComponentLink3URL: http://pdfserv.maximintegrated.com/package_dwgs/21-0057.PDF
footprint MAXM-U5+2_N (SOT23, 5-Leads, Body 2.9x1.625mm, Pitch 0.95mm, IPC Medium Density)
footprint MAXM-U5+2_L (SOT23, 5-Leads, Body 2.9x1.625mm, Pitch 0.95mm, IPC High Density)
footprint MAXM-U5+2_M (SOT23, 5-Leads, Body 2.9x1.625mm, Pitch 0.95mm, IPC Low Density)
pins: 1 OUT (out) "Analog Output. Voltage represents the die’s temperature.", 2 GND (power) "Ground", 3 HYST (in) "Hysteresis Input. Connect to VCC for 2degreesC of hysteresis or to GND for 10degreesC hysteresis", 4 VCC (power) "Input Supply. Bypass to ground with a 0.1uF capacitor", 5 ~{TOVER} (oc) "Open-Drain, Active-Low Output (Hot Threshold). TOVER goes low when the die temperature exceeds the factory-programmed hot temperature threshold. Connect to a 100k ohm pullup resistor. May be pulled up to a voltage higher (See Datasheet)"

## MAX6517UKP085+
designator U?
Low-Cost, 2.7 to 5.5 V Temperature Switch, -55 to 125 degC, 5-Pin SOT23 (U5+2), Pb-Free; Generic Part Number: MAX6517; PartNumber: MAX6517UKP085+; Functions: Temperature Switch/Temperature Comparator; Interface: Analog, Logic; DatasheetVersion: Rev. 1; PackageVersion: Rev. G, 04/2011; PackageReference: U5+2; PackageDescription: 5-Pin Small-Outline Transistor Package, Body 1.625 x 2.9 mm, Pitch 0.95 mm; Supplier 1: Mouser; Supplier Part Number 1: N/A; Mounting Technology: Surface Mount; Code_JEDEC: MO178; ComponentLink1Description: Manufacturer URL; ComponentLink1URL: http://www.maximintegrated.com/; ComponentLink2Description: Datasheet; ComponentLink2URL: http://datasheets.maximintegrated.com/en/ds/MAX6517; ComponentLink3Description: Package Specification; ComponentLink3URL: http://pdfserv.maximintegrated.com/package_dwgs/21-0057.PDF
footprint MAXM-U5+2_N (SOT23, 5-Leads, Body 2.9x1.625mm, Pitch 0.95mm, IPC Medium Density)
footprint MAXM-U5+2_L (SOT23, 5-Leads, Body 2.9x1.625mm, Pitch 0.95mm, IPC High Density)
footprint MAXM-U5+2_M (SOT23, 5-Leads, Body 2.9x1.625mm, Pitch 0.95mm, IPC Low Density)
pins: 1 OUT (out) "Analog Output. Voltage represents the die’s temperature.", 2 GND (power) "Ground", 3 HYST (in) "Hysteresis Input. Connect to VCC for 2degreesC of hysteresis or to GND for 10degreesC hysteresis", 4 VCC (power) "Input Supply. Bypass to ground with a 0.1uF capacitor", 5 ~{TOVER} (oc) "Open-Drain, Active-Low Output (Hot Threshold). TOVER goes low when the die temperature exceeds the factory-programmed hot temperature threshold. Connect to a 100k ohm pullup resistor. May be pulled up to a voltage higher (See Datasheet)"

## MAX6517UKP085+T
designator U?
Low-Cost, 2.7 to 5.5 V Temperature Switch, -55 to 125 degC, 5-Pin SOT23 (U5+2), Pb-Free, Tape and Reel; Generic Part Number: MAX6517; PartNumber: MAX6517UKP085+T; Functions: Temperature Switch/Temperature Comparator; Interface: Analog, Logic; DatasheetVersion: Rev. 1; PackageVersion: Rev. G, 04/2011; PackageReference: U5+2; PackageDescription: 5-Pin Small-Outline Transistor Package, Body 1.625 x 2.9 mm, Pitch 0.95 mm; Supplier 1: Digi-Key; Supplier Part Number 1: MAX6517UKP085+T-ND; Supplier 2: Mouser; Supplier Part Number 2: 700-MAX6517UKP085T; Packing: Tape and Reel; Mounting Technology: Surface Mount; Code_JEDEC: MO178; ComponentLink1Description: Manufacturer URL; ComponentLink1URL: http://www.maximintegrated.com/; ComponentLink2Description: Datasheet; ComponentLink2URL: http://datasheets.maximintegrated.com/en/ds/MAX6517; ComponentLink3Description: Package Specification; ComponentLink3URL: http://pdfserv.maximintegrated.com/package_dwgs/21-0057.PDF
footprint MAXM-U5+2_N (SOT23, 5-Leads, Body 2.9x1.625mm, Pitch 0.95mm, IPC Medium Density)
footprint MAXM-U5+2_L (SOT23, 5-Leads, Body 2.9x1.625mm, Pitch 0.95mm, IPC High Density)
footprint MAXM-U5+2_M (SOT23, 5-Leads, Body 2.9x1.625mm, Pitch 0.95mm, IPC Low Density)
pins: 1 OUT (out) "Analog Output. Voltage represents the die’s temperature.", 2 GND (power) "Ground", 3 HYST (in) "Hysteresis Input. Connect to VCC for 2degreesC of hysteresis or to GND for 10degreesC hysteresis", 4 VCC (power) "Input Supply. Bypass to ground with a 0.1uF capacitor", 5 ~{TOVER} (oc) "Open-Drain, Active-Low Output (Hot Threshold). TOVER goes low when the die temperature exceeds the factory-programmed hot temperature threshold. Connect to a 100k ohm pullup resistor. May be pulled up to a voltage higher (See Datasheet)"

## MAX6517UKP095+T
designator U?
Low-Cost, 2.7 to 5.5 V Temperature Switch, -55 to 125 degC, 5-Pin SOT23 (U5+2), Pb-Free, Tape and Reel; Generic Part Number: MAX6517; PartNumber: MAX6517UKP095+T; Functions: Temperature Switch/Temperature Comparator; Interface: Analog, Logic; DatasheetVersion: Rev. 1; PackageVersion: Rev. G, 04/2011; PackageReference: U5+2; PackageDescription: 5-Pin Small-Outline Transistor Package, Body 1.625 x 2.9 mm, Pitch 0.95 mm; Supplier 1: Digi-Key; Supplier Part Number 1: MAX6517UKP095+T-ND; Supplier 2: Mouser; Supplier Part Number 2: 700-MAX6517UKP095T; Packing: Tape and Reel; Mounting Technology: Surface Mount; Code_JEDEC: MO178; ComponentLink1Description: Manufacturer URL; ComponentLink1URL: http://www.maximintegrated.com/; ComponentLink2Description: Datasheet; ComponentLink2URL: http://datasheets.maximintegrated.com/en/ds/MAX6517; ComponentLink3Description: Package Specification; ComponentLink3URL: http://pdfserv.maximintegrated.com/package_dwgs/21-0057.PDF
footprint MAXM-U5+2_N (SOT23, 5-Leads, Body 2.9x1.625mm, Pitch 0.95mm, IPC Medium Density)
footprint MAXM-U5+2_L (SOT23, 5-Leads, Body 2.9x1.625mm, Pitch 0.95mm, IPC High Density)
footprint MAXM-U5+2_M (SOT23, 5-Leads, Body 2.9x1.625mm, Pitch 0.95mm, IPC Low Density)
pins: 1 OUT (out) "Analog Output. Voltage represents the die’s temperature.", 2 GND (power) "Ground", 3 HYST (in) "Hysteresis Input. Connect to VCC for 2degreesC of hysteresis or to GND for 10degreesC hysteresis", 4 VCC (power) "Input Supply. Bypass to ground with a 0.1uF capacitor", 5 ~{TOVER} (oc) "Open-Drain, Active-Low Output (Hot Threshold). TOVER goes low when the die temperature exceeds the factory-programmed hot temperature threshold. Connect to a 100k ohm pullup resistor. May be pulled up to a voltage higher (See Datasheet)"

## MAX6517UKP105+T
designator U?
Low-Cost, 2.7 to 5.5 V Temperature Switch, -55 to 125 degC, 5-Pin SOT23 (U5+2), Pb-Free, Tape and Reel; Generic Part Number: MAX6517; PartNumber: MAX6517UKP105+T; Functions: Temperature Switch/Temperature Comparator; Interface: Analog, Logic; DatasheetVersion: Rev. 1; PackageVersion: Rev. G, 04/2011; PackageReference: U5+2; PackageDescription: 5-Pin Small-Outline Transistor Package, Body 1.625 x 2.9 mm, Pitch 0.95 mm; Supplier 1: Digi-Key; Supplier Part Number 1: MAX6517UKP105+T-ND; Supplier 2: Mouser; Supplier Part Number 2: 700-MAX6517UKP105T; Packing: Tape and Reel; Mounting Technology: Surface Mount; Code_JEDEC: MO178; ComponentLink1Description: Manufacturer URL; ComponentLink1URL: http://www.maximintegrated.com/; ComponentLink2Description: Datasheet; ComponentLink2URL: http://datasheets.maximintegrated.com/en/ds/MAX6517; ComponentLink3Description: Package Specification; ComponentLink3URL: http://pdfserv.maximintegrated.com/package_dwgs/21-0057.PDF
footprint MAXM-U5+2_N (SOT23, 5-Leads, Body 2.9x1.625mm, Pitch 0.95mm, IPC Medium Density)
footprint MAXM-U5+2_L (SOT23, 5-Leads, Body 2.9x1.625mm, Pitch 0.95mm, IPC High Density)
footprint MAXM-U5+2_M (SOT23, 5-Leads, Body 2.9x1.625mm, Pitch 0.95mm, IPC Low Density)
pins: 1 OUT (out) "Analog Output. Voltage represents the die’s temperature.", 2 GND (power) "Ground", 3 HYST (in) "Hysteresis Input. Connect to VCC for 2degreesC of hysteresis or to GND for 10degreesC hysteresis", 4 VCC (power) "Input Supply. Bypass to ground with a 0.1uF capacitor", 5 ~{TOVER} (oc) "Open-Drain, Active-Low Output (Hot Threshold). TOVER goes low when the die temperature exceeds the factory-programmed hot temperature threshold. Connect to a 100k ohm pullup resistor. May be pulled up to a voltage higher (See Datasheet)"

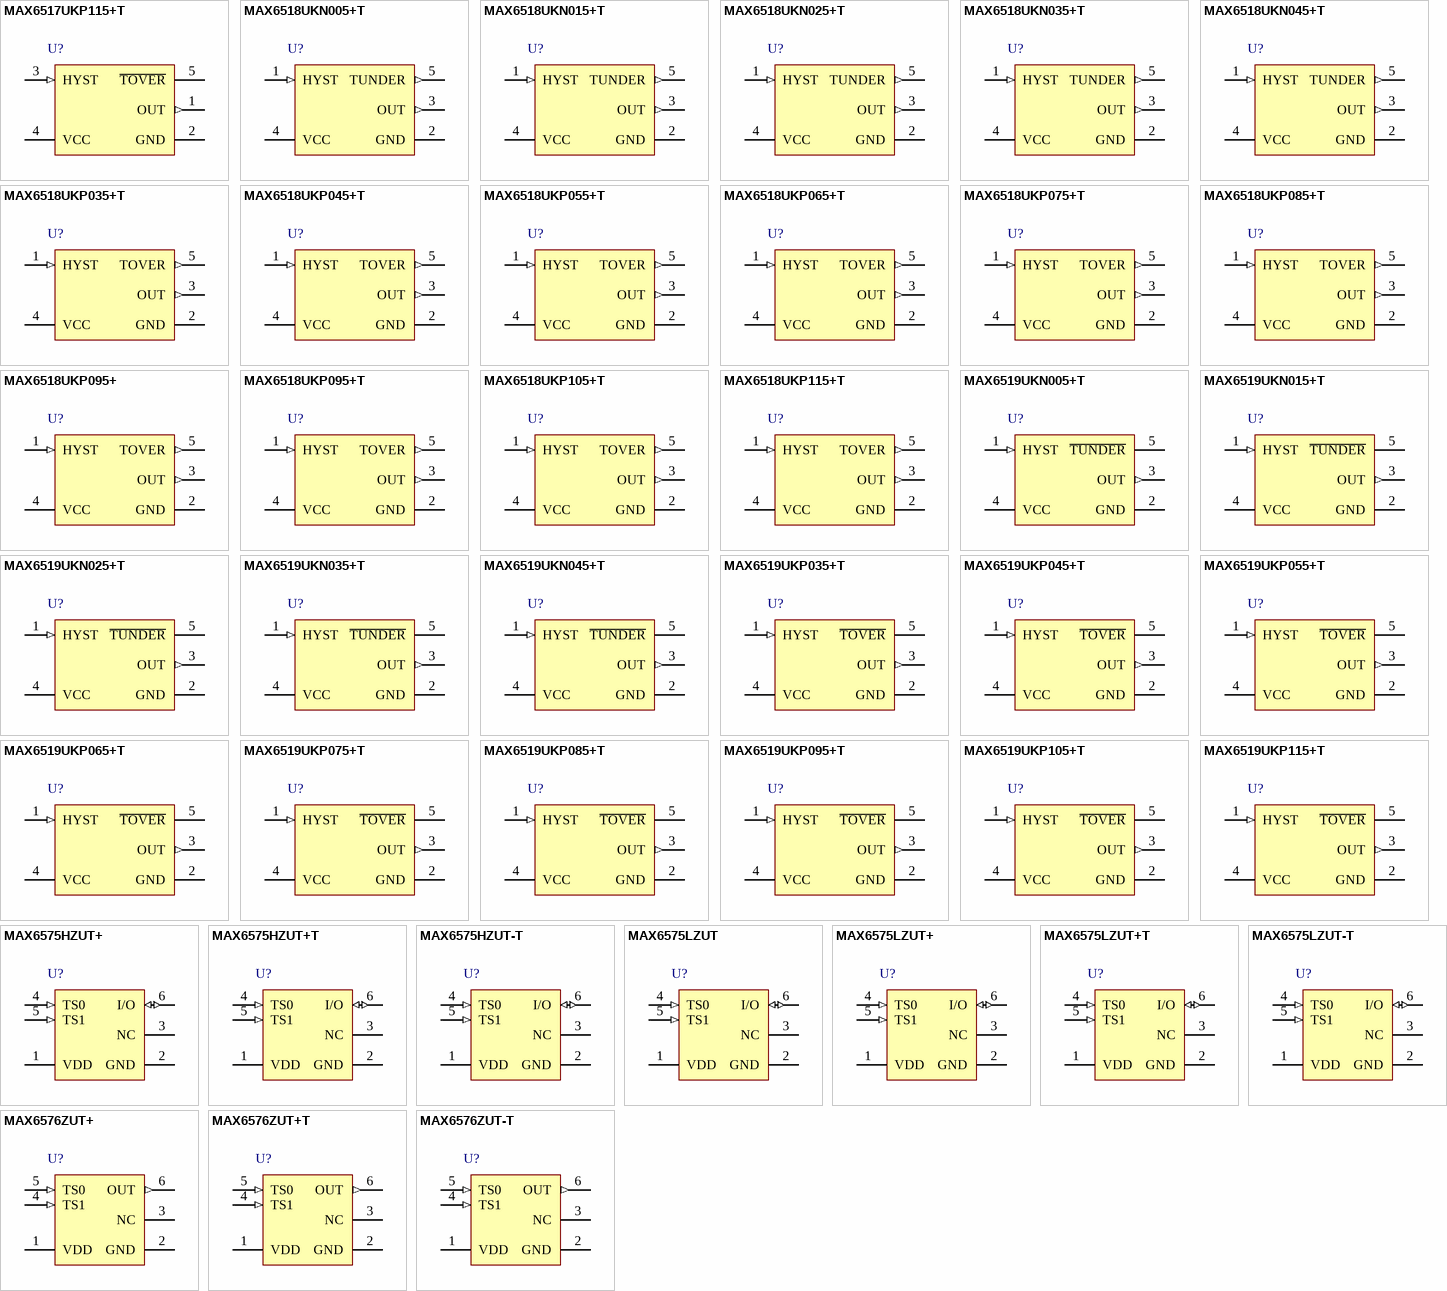
[diagram p13: symbols MAX6517UKP115+T to MAX6576ZUT-T]

## MAX6517UKP115+T
designator U?
Low-Cost, 2.7 to 5.5 V Temperature Switch, -55 to 125 degC, 5-Pin SOT23 (U5+2), Pb-Free, Tape and Reel; Generic Part Number: MAX6517; PartNumber: MAX6517UKP115+T; Functions: Temperature Switch/Temperature Comparator; Interface: Analog, Logic; DatasheetVersion: Rev. 1; PackageVersion: Rev. G, 04/2011; PackageReference: U5+2; PackageDescription: 5-Pin Small-Outline Transistor Package, Body 1.625 x 2.9 mm, Pitch 0.95 mm; Supplier 1: Digi-Key; Supplier Part Number 1: MAX6517UKP115+T-ND; Supplier 2: Mouser; Supplier Part Number 2: 700-MAX6517UKP115T; Packing: Tape and Reel; Mounting Technology: Surface Mount; Code_JEDEC: MO178; ComponentLink1Description: Manufacturer URL; ComponentLink1URL: http://www.maximintegrated.com/; ComponentLink2Description: Datasheet; ComponentLink2URL: http://datasheets.maximintegrated.com/en/ds/MAX6517; ComponentLink3Description: Package Specification; ComponentLink3URL: http://pdfserv.maximintegrated.com/package_dwgs/21-0057.PDF
footprint MAXM-U5+2_N (SOT23, 5-Leads, Body 2.9x1.625mm, Pitch 0.95mm, IPC Medium Density)
footprint MAXM-U5+2_L (SOT23, 5-Leads, Body 2.9x1.625mm, Pitch 0.95mm, IPC High Density)
footprint MAXM-U5+2_M (SOT23, 5-Leads, Body 2.9x1.625mm, Pitch 0.95mm, IPC Low Density)
pins: 1 OUT (out) "Analog Output. Voltage represents the die’s temperature.", 2 GND (power) "Ground", 3 HYST (in) "Hysteresis Input. Connect to VCC for 2degreesC of hysteresis or to GND for 10degreesC hysteresis", 4 VCC (power) "Input Supply. Bypass to ground with a 0.1uF capacitor", 5 ~{TOVER} (oc) "Open-Drain, Active-Low Output (Hot Threshold). TOVER goes low when the die temperature exceeds the factory-programmed hot temperature threshold. Connect to a 100k ohm pullup resistor. May be pulled up to a voltage higher (See Datasheet)"

## MAX6518UKN005+T
designator U?
Low-Cost, 2.7 to 5.5 V Temperature Switch, -55 to 125 degC, 5-Pin SOT23 (U5+2), Pb-Free, Tape and Reel; Generic Part Number: MAX6518; PartNumber: MAX6518UKN005+T; Functions: Temperature Switch/Temperature Comparator; Interface: Logic; DatasheetVersion: Rev. 1; PackageVersion: Rev. G, 04/2011; PackageReference: U5+2; PackageDescription: 5-Pin Small-Outline Transistor Package, Body 1.625 x 2.9 mm, Pitch 0.95 mm; Supplier 1: Mouser; Supplier Part Number 1: N/A; Packing: Tape and Reel; Mounting Technology: Surface Mount; Code_JEDEC: MO178; ComponentLink1Description: Manufacturer URL; ComponentLink1URL: http://www.maximintegrated.com/; ComponentLink2Description: Datasheet; ComponentLink2URL: http://datasheets.maximintegrated.com/en/ds/MAX6516-MAX6519.pdf; ComponentLink3Description: Package Specification; ComponentLink3URL: http://pdfserv.maximintegrated.com/package_dwgs/21-0057.PDF
footprint MAXM-U5+2_N (SOT23, 5-Leads, Body 2.9x1.625mm, Pitch 0.95mm, IPC Medium Density)
footprint MAXM-U5+2_L (SOT23, 5-Leads, Body 2.9x1.625mm, Pitch 0.95mm, IPC High Density)
footprint MAXM-U5+2_M (SOT23, 5-Leads, Body 2.9x1.625mm, Pitch 0.95mm, IPC Low Density)
pins: 1 HYST (in) "Hysteresis Input. Connect to VCC for 2degreesC of hysteresis or to GND for 10degreesC hysteresis", 2 GND (power) "Ground", 3 OUT (out) "Analog Output. Voltage represents the die’s temperature.", 4 VCC (power) "Input Supply. Bypass to ground with a 0.1uF capacitor.", 5 TUNDER (out) "Push-Pull Active-High Output (Cold Threshold). TUNDER goes high when the die temperature falls below the factory-programmed cold temperature threshold"

## MAX6518UKN015+T
designator U?
Low-Cost, 2.7 to 5.5 V Temperature Switch, -55 to 125 degC, 5-Pin SOT23 (U5+2), Pb-Free, Tape and Reel; Generic Part Number: MAX6518; PartNumber: MAX6518UKN015+T; Functions: Temperature Switch/Temperature Comparator; Interface: Logic; DatasheetVersion: Rev. 1; PackageVersion: Rev. G, 04/2011; PackageReference: U5+2; PackageDescription: 5-Pin Small-Outline Transistor Package, Body 1.625 x 2.9 mm, Pitch 0.95 mm; Supplier 1: Mouser; Supplier Part Number 1: N/A; Packing: Tape and Reel; Mounting Technology: Surface Mount; Code_JEDEC: MO178; ComponentLink1Description: Manufacturer URL; ComponentLink1URL: http://www.maximintegrated.com/; ComponentLink2Description: Datasheet; ComponentLink2URL: http://datasheets.maximintegrated.com/en/ds/MAX6516-MAX6519.pdf; ComponentLink3Description: Package Specification; ComponentLink3URL: http://pdfserv.maximintegrated.com/package_dwgs/21-0057.PDF
footprint MAXM-U5+2_N (SOT23, 5-Leads, Body 2.9x1.625mm, Pitch 0.95mm, IPC Medium Density)
footprint MAXM-U5+2_L (SOT23, 5-Leads, Body 2.9x1.625mm, Pitch 0.95mm, IPC High Density)
footprint MAXM-U5+2_M (SOT23, 5-Leads, Body 2.9x1.625mm, Pitch 0.95mm, IPC Low Density)
pins: 1 HYST (in) "Hysteresis Input. Connect to VCC for 2degreesC of hysteresis or to GND for 10degreesC hysteresis", 2 GND (power) "Ground", 3 OUT (out) "Analog Output. Voltage represents the die’s temperature.", 4 VCC (power) "Input Supply. Bypass to ground with a 0.1uF capacitor.", 5 TUNDER (out) "Push-Pull Active-High Output (Cold Threshold). TUNDER goes high when the die temperature falls below the factory-programmed cold temperature threshold"

## MAX6518UKN025+T
designator U?
Low-Cost, 2.7 to 5.5 V Temperature Switch, -55 to 125 degC, 5-Pin SOT23 (U5+2), Pb-Free, Tape and Reel; Generic Part Number: MAX6518; PartNumber: MAX6518UKN025+T; Functions: Temperature Switch/Temperature Comparator; Interface: Logic; DatasheetVersion: Rev. 1; PackageVersion: Rev. G, 04/2011; PackageReference: U5+2; PackageDescription: 5-Pin Small-Outline Transistor Package, Body 1.625 x 2.9 mm, Pitch 0.95 mm; Supplier 1: Mouser; Supplier Part Number 1: N/A; Packing: Tape and Reel; Mounting Technology: Surface Mount; Code_JEDEC: MO178; ComponentLink1Description: Manufacturer URL; ComponentLink1URL: http://www.maximintegrated.com/; ComponentLink2Description: Datasheet; ComponentLink2URL: http://datasheets.maximintegrated.com/en/ds/MAX6516-MAX6519.pdf; ComponentLink3Description: Package Specification; ComponentLink3URL: http://pdfserv.maximintegrated.com/package_dwgs/21-0057.PDF
footprint MAXM-U5+2_N (SOT23, 5-Leads, Body 2.9x1.625mm, Pitch 0.95mm, IPC Medium Density)
footprint MAXM-U5+2_L (SOT23, 5-Leads, Body 2.9x1.625mm, Pitch 0.95mm, IPC High Density)
footprint MAXM-U5+2_M (SOT23, 5-Leads, Body 2.9x1.625mm, Pitch 0.95mm, IPC Low Density)
pins: 1 HYST (in) "Hysteresis Input. Connect to VCC for 2degreesC of hysteresis or to GND for 10degreesC hysteresis", 2 GND (power) "Ground", 3 OUT (out) "Analog Output. Voltage represents the die’s temperature.", 4 VCC (power) "Input Supply. Bypass to ground with a 0.1uF capacitor.", 5 TUNDER (out) "Push-Pull Active-High Output (Cold Threshold). TUNDER goes high when the die temperature falls below the factory-programmed cold temperature threshold"

## MAX6518UKN035+T
designator U?
Low-Cost, 2.7 to 5.5 V Temperature Switch, -55 to 125 degC, 5-Pin SOT23 (U5+2), Pb-Free, Tape and Reel; Generic Part Number: MAX6518; PartNumber: MAX6518UKN035+T; Functions: Temperature Switch/Temperature Comparator; Interface: Logic; DatasheetVersion: Rev. 1; PackageVersion: Rev. G, 04/2011; PackageReference: U5+2; PackageDescription: 5-Pin Small-Outline Transistor Package, Body 1.625 x 2.9 mm, Pitch 0.95 mm; Supplier 1: Mouser; Supplier Part Number 1: N/A; Packing: Tape and Reel; Mounting Technology: Surface Mount; Code_JEDEC: MO178; ComponentLink1Description: Manufacturer URL; ComponentLink1URL: http://www.maximintegrated.com/; ComponentLink2Description: Datasheet; ComponentLink2URL: http://datasheets.maximintegrated.com/en/ds/MAX6516-MAX6519.pdf; ComponentLink3Description: Package Specification; ComponentLink3URL: http://pdfserv.maximintegrated.com/package_dwgs/21-0057.PDF
footprint MAXM-U5+2_N (SOT23, 5-Leads, Body 2.9x1.625mm, Pitch 0.95mm, IPC Medium Density)
footprint MAXM-U5+2_L (SOT23, 5-Leads, Body 2.9x1.625mm, Pitch 0.95mm, IPC High Density)
footprint MAXM-U5+2_M (SOT23, 5-Leads, Body 2.9x1.625mm, Pitch 0.95mm, IPC Low Density)
pins: 1 HYST (in) "Hysteresis Input. Connect to VCC for 2degreesC of hysteresis or to GND for 10degreesC hysteresis", 2 GND (power) "Ground", 3 OUT (out) "Analog Output. Voltage represents the die’s temperature.", 4 VCC (power) "Input Supply. Bypass to ground with a 0.1uF capacitor.", 5 TUNDER (out) "Push-Pull Active-High Output (Cold Threshold). TUNDER goes high when the die temperature falls below the factory-programmed cold temperature threshold"

## MAX6518UKN045+T
designator U?
Low-Cost, 2.7 to 5.5 V Temperature Switch, -55 to 125 degC, 5-Pin SOT23 (U5+2), Pb-Free, Tape and Reel; Generic Part Number: MAX6518; PartNumber: MAX6518UKN045+T; Functions: Temperature Switch/Temperature Comparator; Interface: Logic; DatasheetVersion: Rev. 1; PackageVersion: Rev. G, 04/2011; PackageReference: U5+2; PackageDescription: 5-Pin Small-Outline Transistor Package, Body 1.625 x 2.9 mm, Pitch 0.95 mm; Supplier 1: Mouser; Supplier Part Number 1: N/A; Packing: Tape and Reel; Mounting Technology: Surface Mount; Code_JEDEC: MO178; ComponentLink1Description: Manufacturer URL; ComponentLink1URL: http://www.maximintegrated.com/; ComponentLink2Description: Datasheet; ComponentLink2URL: http://datasheets.maximintegrated.com/en/ds/MAX6516-MAX6519.pdf; ComponentLink3Description: Package Specification; ComponentLink3URL: http://pdfserv.maximintegrated.com/package_dwgs/21-0057.PDF
footprint MAXM-U5+2_N (SOT23, 5-Leads, Body 2.9x1.625mm, Pitch 0.95mm, IPC Medium Density)
footprint MAXM-U5+2_L (SOT23, 5-Leads, Body 2.9x1.625mm, Pitch 0.95mm, IPC High Density)
footprint MAXM-U5+2_M (SOT23, 5-Leads, Body 2.9x1.625mm, Pitch 0.95mm, IPC Low Density)
pins: 1 HYST (in) "Hysteresis Input. Connect to VCC for 2degreesC of hysteresis or to GND for 10degreesC hysteresis", 2 GND (power) "Ground", 3 OUT (out) "Analog Output. Voltage represents the die’s temperature.", 4 VCC (power) "Input Supply. Bypass to ground with a 0.1uF capacitor.", 5 TUNDER (out) "Push-Pull Active-High Output (Cold Threshold). TUNDER goes high when the die temperature falls below the factory-programmed cold temperature threshold"

## MAX6518UKP035+T
designator U?
Low-Cost, 2.7 to 5.5 V Temperature Switch, -55 to 125 degC, 5-Pin SOT23 (U5+2), Pb-Free, Tape and Reel; Generic Part Number: MAX6518; PartNumber: MAX6518UKP035+T; Functions: Temperature Switch/Temperature Comparator; Interface: Analog, Logic; DatasheetVersion: Rev. 1; PackageVersion: Rev. G, 04/2011; PackageReference: U5+2; PackageDescription: 5-Pin Small-Outline Transistor Package, Body 1.625 x 2.9 mm, Pitch 0.95 mm; Supplier 1: Digi-Key; Supplier Part Number 1: MAX6518UKP035+T-ND; Supplier 2: Mouser; Supplier Part Number 2: 700-MAX6518UKP035T; Packing: Tape and Reel; Mounting Technology: Surface Mount; Code_JEDEC: MO178; ComponentLink1Description: Manufacturer URL; ComponentLink1URL: http://www.maximintegrated.com/; ComponentLink2Description: Datasheet; ComponentLink2URL: http://datasheets.maximintegrated.com/en/ds/MAX6518; ComponentLink3Description: Package Specification; ComponentLink3URL: http://pdfserv.maximintegrated.com/package_dwgs/21-0057.PDF
footprint MAXM-U5+2_N (SOT23, 5-Leads, Body 2.9x1.625mm, Pitch 0.95mm, IPC Medium Density)
footprint MAXM-U5+2_L (SOT23, 5-Leads, Body 2.9x1.625mm, Pitch 0.95mm, IPC High Density)
footprint MAXM-U5+2_M (SOT23, 5-Leads, Body 2.9x1.625mm, Pitch 0.95mm, IPC Low Density)
pins: 1 HYST (in) "Hysteresis Input. Connect to VCC for 2degreesC of hysteresis or to GND for 10degreesC hysteresis.", 2 GND (power) "Ground", 3 OUT (out) "Analog Output. Voltage represents the die’s temperature.", 4 VCC (power) "Input Supply. Bypass to ground with a 0.1uF capacitor.", 5 TOVER (out) "Push-Pull Active-High Output (Hot Threshold). TOVER goes high when the die temperature exceeds the factory-programmed hot temperature threshold."